# EAGLE library part ISP_HEADER_2X3 (library wsn)
AVR ISP 6-pin inline header for Arduino ISP
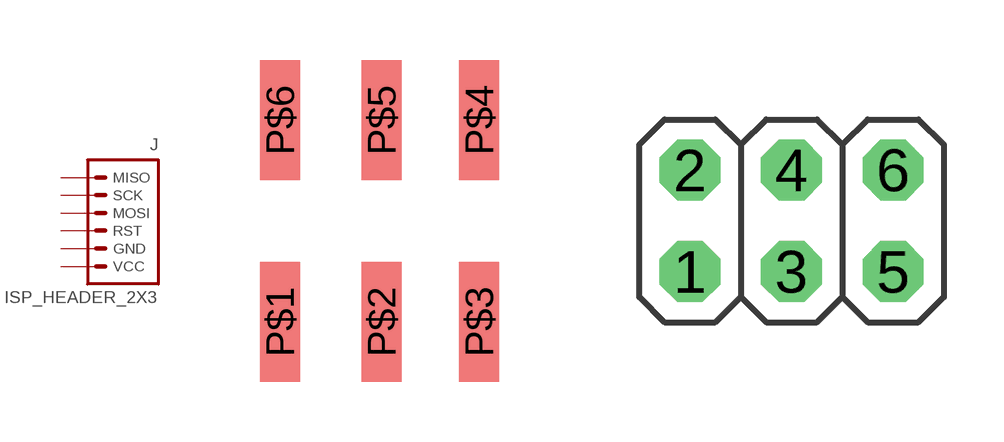
[diagram p62: symbol with the pads of M-2X3; footprints M-2X3, 2X03]

Designator prefix J

## ISP_HEADER_2X3  [M-2X3]
P$1  MISO  pas
P$2  SCK  pas
P$3  RST  pas
P$4  GND  pas
P$5  MOSI  pas
P$6  VCC  pas

## ISP_HEADER_2X3M-2X3_TH  [2X03]
1  MISO  pas
2  VCC  pas
3  SCK  pas
4  MOSI  pas
5  RST  pas
6  GND  pas

## ISP_HEADER_2X32X03_GND  [2X03_GND]
Pads as for 2X03

## ISP_HEADER_2X3M-2X3_GND  [M-2X3_GND]
Pads as for M-2X3

## Footprint M-2X3 (pad centres in mm)
smd 1 x 3: P$1 0,0; P$2 2.54,0; P$3 4.98,0; P$4 4.98,5.05; P$5 2.54,5.05; P$6 0,5.05

## Footprint 2X03 (pad centres in mm)
PIN HEADER
drill 1.016 octagon: 1 -2.54,-1.27; 2 -2.54,1.27; 3 0,-1.27; 4 0,1.27; 5 2.54,-1.27; 6 2.54,1.27

## Footprint 2X03_GND (pad centres in mm)
PIN HEADER
drill 1.016 octagon: 1 -2.54,-1.27; 2 -2.54,1.27; 3 0,-1.27; 4 0,1.27; 5 2.54,-1.27; 6 2.54,1.27

## Footprint M-2X3_GND (pad centres in mm)
smd 1 x 3: P$1 0,0; P$2 2.54,0; P$3 4.98,0; P$4 4.98,5.05; P$5 2.54,5.05; P$6 0,5.05